# Altium schematic symbol library Coil 10uH.SchLib: 1 symbol
Pins are listed as number, name and electrical type; pins without a type are passive.

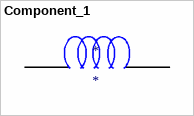
[diagram p0: symbol Component_1]

## Component_1
designator *
footprint MPL-AY1050 (Chip Inductor, 2-Leads, Body 11.00x10.00mm, IPC Medium Density)
pins: 1, 2